# EAGLE library part BD6231F (library Motor Driver)
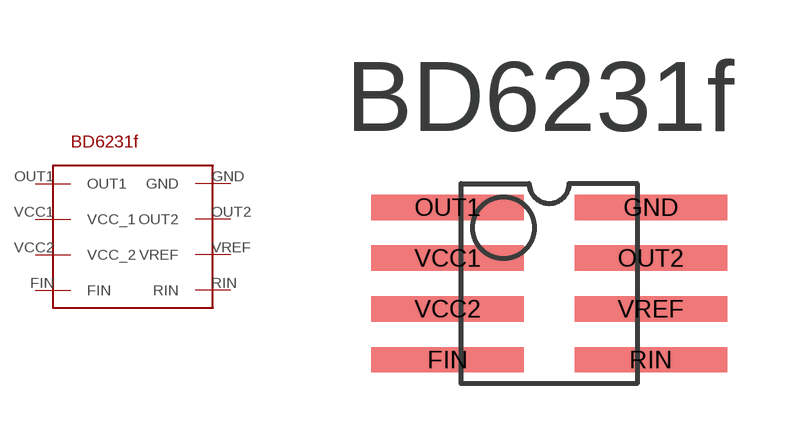
[diagram p0: symbol with the pads of BD6231F; footprint BD6231F]

Designator prefix MD

## BD6231F  [BD6231F]
FIN  FIN
GND  GND
OUT1  OUT1
OUT2  OUT2
RIN  RIN
VCC1  VCC_1
VCC2  VCC_2
VREF  VREF

## Footprint BD6231F (pad centres in mm)
smd 3.81 x 0.635: FIN -2.54,-1.905; GND 2.54,1.905; OUT1 -2.54,1.905; OUT2 2.54,0.635; RIN 2.54,-1.905; VCC1 -2.54,0.635; VCC2 -2.54,-0.635; VREF 2.54,-0.635